# Altium footprint library Capacitors.PcbLib: 5 footprints
Each footprint in its own frame and in the unit in brackets; x right, y up, seen from the top. Pads: shape width x height; smd on the part's side, far side on the other; paste and mask are expansions set on the pad; w line width, h text height; cw(c..) or ccw(c..) is an arc to the next point about the centre after c.
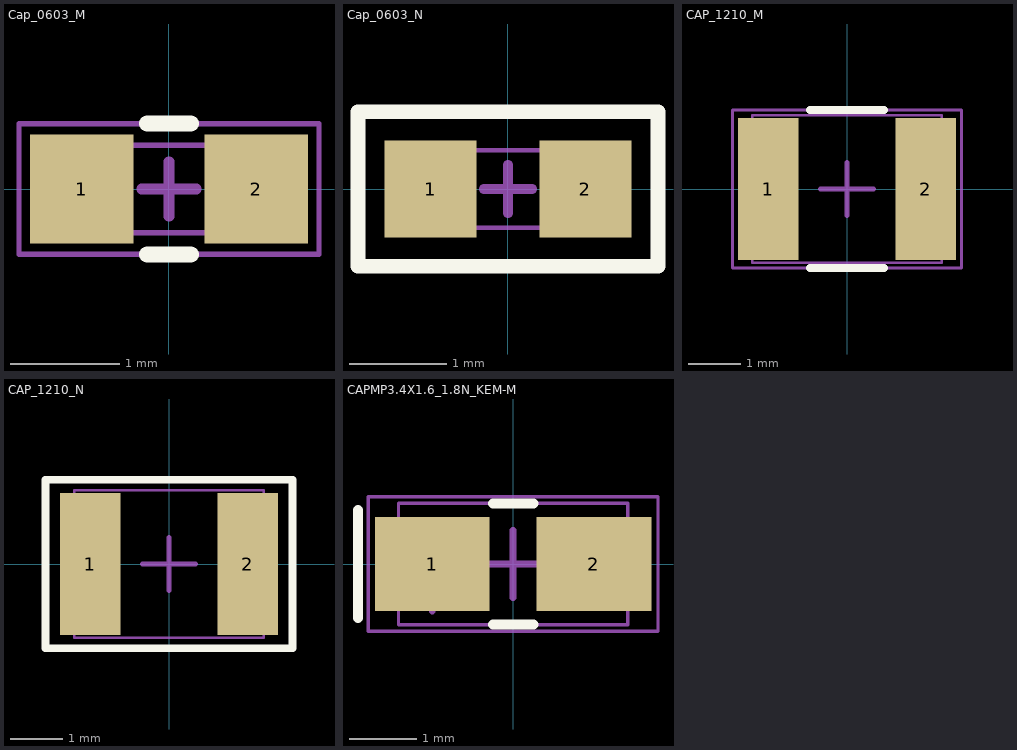
[diagram p0: the footprints below, top view; thin cyan lines are the x and y axes]

## Cap_0603_M [mm] "Yageo KEMET Maximum Density (Level A) Footprint using Nominal Land Protusion (Level B), reference at part centre. Datasheet: https://www.yageogroup.com/content/datasheet/asset/file/KEM_C1006_X5R_SMD"
height 1
pads (2):
  rect 0.95x1 smd: 1(-0.8,0) 2(0.8,0)
Top Overlay:
  lines w0.15: -0.2,-0.6 0.2,-0.6 ; -0.2,0.6 0.2,0.6
Top Assembly:
  lines w0.05: -0.8,-0.4 0.8,-0.4 0.8,0.4 -0.8,0.4 -0.8,-0.4
  text ".designator" at -2.499,-0.167 h0.5
Top Courtyard:
  lines w0.05: -1.375,-0.6 1.375,-0.6 1.375,0.6 -1.375,0.6 -1.375,-0.6
  lines w0.1: -0.25,0 0.25,0 ; 0,-0.25 0,0.25
3D body "CC0603MRX5R7BB106.step": height 0.91, standoff 0.01, extent -0.8,-0.4 0.8,0.4

## Cap_0603_N [mm] "Yageo KEMET Nominal Density Footprint using Nominal Land Protusion (Level B), reference at part centre. Datasheet: https://www.yageogroup.com/content/datasheet/asset/file/KEM_C1006_X5R_SMD"
height 1
pads (2):
  rect 0.95x1 smd: 1(-0.8,0) 2(0.8,0)
Top Overlay:
  lines w0.15: -1.55,-0.8 1.55,-0.8 1.55,0.8 -1.55,0.8 -1.55,-0.8
Top Assembly:
  lines w0.05: -0.8,-0.4 0.8,-0.4 0.8,0.4 -0.8,0.4 -0.8,-0.4
  text ".designator" at -2.499,-0.167 h0.5
Top Courtyard:
  lines w0.05: -1.525,-0.75 1.525,-0.75 1.525,0.75 -1.525,0.75 -1.525,-0.75
  lines w0.1: -0.25,0 0.25,0 ; 0,-0.25 0,0.25
3D body "CC0603MRX5R7BB106.step": height 0.91, standoff 0.01, extent -0.8,-0.4 0.8,0.4

## CAP_1210_M [mm] "Yageo KEMET Maximum Density (Level A) Footprint using Nominal Land Protusion (Level B), reference at part centre. Datasheet: https://www.yageogroup.com/content/datasheet/asset/file/KEM_C1006_X5R_SMD"
height 2
pads (2):
  rect 1.15x2.7 smd: 1(-1.5,0) 2(1.5,0)
Top Overlay:
  lines w0.15: -0.7,-1.5 0.7,-1.5 ; -0.7,1.5 0.7,1.5
Top Assembly:
  lines w0.05: -1.8,-1.4 1.8,-1.4 1.8,1.4 -1.8,1.4 -1.8,-1.4
  text ".designator" at -4.998,-0.333 h1
Top Courtyard:
  lines w0.05: -2.175,-1.5 2.175,-1.5 2.175,1.5 -2.175,1.5 -2.175,-1.5
  lines w0.1: -0.5,0 0.5,0 ; 0,-0.5 0,0.5
3D body "C1210C105J5RAC7800.step": height 1.46, standoff 0.01, extent -1.8,-1.4 1.8,1.4

## CAP_1210_N [mm] "Yageo KEMET Nominal Density Footprint using Nominal Land Protusion (Level B), reference at part centre. Datasheet: https://www.yageogroup.com/content/datasheet/asset/file/KEM_C1006_X5R_SMD"
height 2
pads (2):
  rect 1.15x2.7 smd: 1(-1.5,0) 2(1.5,0)
Top Overlay:
  lines w0.15: -2.35,-1.6 2.35,-1.6 2.35,1.6 -2.35,1.6 -2.35,-1.6
Top Assembly:
  lines w0.05: -1.8,-1.4 1.8,-1.4 1.8,1.4 -1.8,1.4 -1.8,-1.4
  text ".designator" at -4.998,-0.333 h1
Top Courtyard:
  lines w0.05: -2.325,-1.6 2.325,-1.6 2.325,1.6 -2.325,1.6 -2.325,-1.6
  lines w0.1: -0.5,0 0.5,0 ; 0,-0.5 0,0.5
3D body "C1210C105J5RAC7800.step": height 1.46, standoff 0.01, extent -1.8,-1.4 1.8,1.4

## CAPMP3.4X1.6_1.8N_KEM-M [mm]
pads (2):
  rect 1.7x1.4 smd: 1(-1.2,0) 2(1.2,0)
Top Overlay:
  lines w0.15: -2.3,-0.8 -2.3,0.8 ; -0.3,-0.9 0.3,-0.9 ; -0.3,0.9 0.3,0.9
Top Assembly:
  lines w0.05: -1.7,-0.9 1.7,-0.9 1.7,0.9 -1.7,0.9 -1.7,-0.9
  lines w0.1: -1.5,-0.4 -0.9,-0.4 ; -1.2,-0.7 -1.2,-0.1
  text ".Designator" at -2.499,0.233 h0.5
Top Courtyard:
  lines w0.05: -2.15,-1 2.15,-1 2.15,1 -2.15,1 -2.15,-1
  lines w0.1: -0.5,0 0.5,0 ; 0,-0.5 0,0.5
3D body "CTSM_TCM2NK_3216_L3.4W1.8H1.8T0.13S0.8F1.3A1.2B0.55E1.3G1.1P0.4R0.4X0.2.step": height 1.82, standoff 0.01, extent -1.7,-0.9 1.7,0.9